# Altium schematic symbol library Ferrite Bead.SchLib: 1 symbol
Pins are listed as number, name and electrical type; pins without a type are passive.

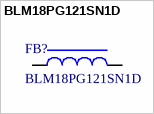
[diagram p0: symbol BLM18PG121SN1D]

## BLM18PG121SN1D
designator FB?
EMIFIL (Inductor type) Chip Ferrite Bead / BLM18P Series (0603 Size); Mfr_Name: Murata; Type: DEV; Impedance: 120ohm@100MHz; Rated Current: 2A; Copyright: Copyright (C) 2022 Ultra Librarian. All rights reserved.; Manufacturer_Part_Number: BLM18PG121SN1D; RefDes: RefDes
footprint IND_BLM18_0603_MUR
footprint IND_BLM18_0603_MUR-L
footprint IND_BLM18_0603_MUR-M
pins: 1, 2